# Altium schematic symbol library Diode.Schlib: 1 symbol
Pins are listed as number, name and electrical type; pins without a type are passive.

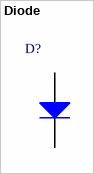
[diagram p0: symbol Diode]

## Diode
designator D?
pins: 1 A, 2 K